# EAGLE library part 38720-6306 (library con-molex)
BEAU Terminal Block 72 R Series
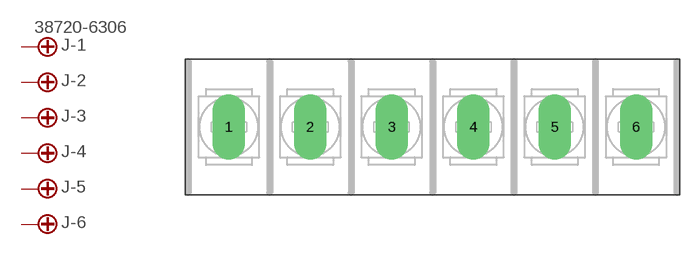
[diagram p132: symbol with the pads of 38720-6306; footprint 38720-6306]

Designator prefix J; gates -1=STV -2=ST -3=ST -4=ST -5=ST -6=ST

## 38720-6306  [38720-6306]
1  -1:S  pas
2  -2:S  pas
3  -3:S  pas
4  -4:S  pas
5  -5:S  pas
6  -6:S  pas

## Footprint 38720-6306 (pad centres in mm)
BEAU Terminal Block 72 R Series - 0.375" pitch
drill 1.778 pad 3.81 long: 1 -23.812,0; 2 -14.287,0; 3 -4.763,0; 4 4.763,0; 5 14.287,0; 6 23.812,0